# EAGLE library part 4309R-101-202LF (library 4309R-101-202LF)
Resistor Networks & Arrays 9pin 2Kohms Bussed Low Profile Source: Datasheet <https://componentsearchengine.com/Datasheets/1/4309R-101-202LF.pdf>
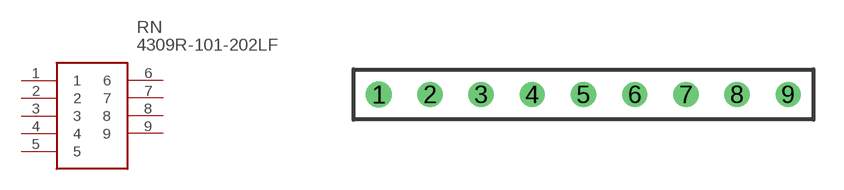
[diagram p0: symbol with the pads of 4309R-101; footprint 4309R-101]

Designator prefix RN

## 4309R-101-202LF (Description: Resistor Networks & Arrays 9pin 2Kohms Bussed Low Profile; Height: mm; Manufacturer_Name: Bourns; Manufacturer_Part_Number: 4309R-101-202LF; Mouser_Part_Number: 652-4309R-1LF-2K; Mouser_Price-Stock: https://www.mouser.com/Search/Refine.aspx?Keyword=652-4309R-1LF-2K)  [4309R-101]
1  1
2  2
3  3
4  4
5  5
6  6
7  7
8  8
9  9

## Footprint 4309R-101 (pad centres in mm)
4309R-101
drill 0.77 pad 1.27: 1 0,0
drill 0.75 pad 1.25: 2 2.54,0; 3 5.08,0; 4 7.62,0; 5 10.16,0; 6 12.7,0; 7 15.24,0; 8 17.78,0; 9 20.32,0